# Altium footprint library ECD.PcbLib: 17 footprints (part 2 of 2)
Each footprint in its own frame and in the unit in brackets; x right, y up, seen from the top. Pads: shape width x height; smd on the part's side, far side on the other; paste and mask are expansions set on the pad; w line width, h text height; cw(c..) or ccw(c..) is an arc to the next point about the centre after c.
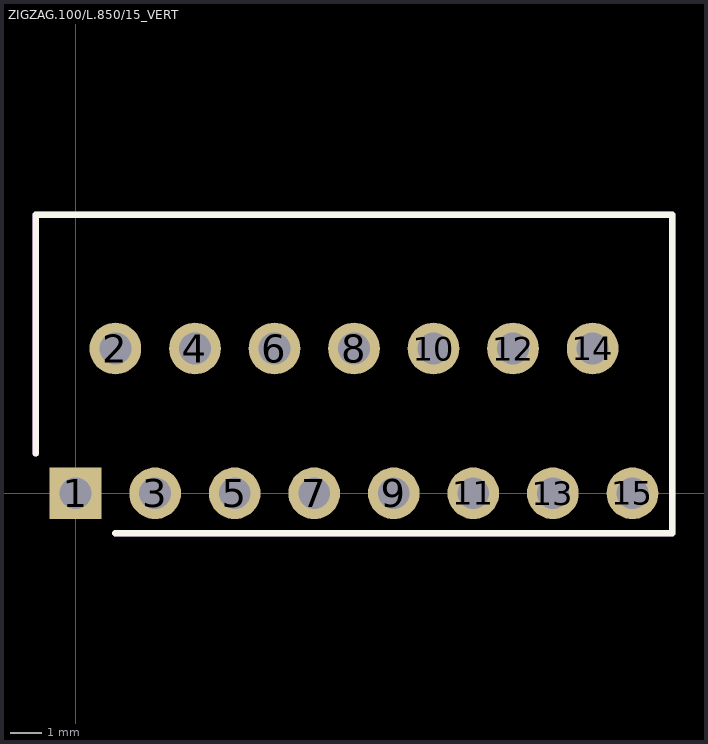
[diagram p1: the footprint, top view; thin cyan lines are the x and y axes]

## ZIGZAG.100/L.850/15_VERT [mil]
pads (15):
  rect 65x65 / inner rect 85x85 / far side rect 65x65 hole 40: 1(0,0)
  round 65 / inner round 85 / far side round 65 hole 40: 2(50,182) 3(100,0) 4(150,182) 5(200,0) 6(250,182) 7(300,0) 8(350,182) 9(400,0) 10(450,182) 11(500,0) 12(550,182) 13(600,0) 14(650,182) 15(700,0)
Top Overlay:
  lines w8: -50,50 -50,350 750,350 750,-50 50,-50
Mechanical 1:
  lines w8: -50,50 -50,350 750,350 750,-50 50,-50
3D body: height 888.98, standoff -91.93, extent -35.83,-10 735.83,347.01